# EAGLE library part TSC2007IPW (library TSC2007)
1.2V to 3.6V, 12-Bit, Nanopower, 4-Wire Micro TOUCH SCREEN CONTROLLER with I2C Interface
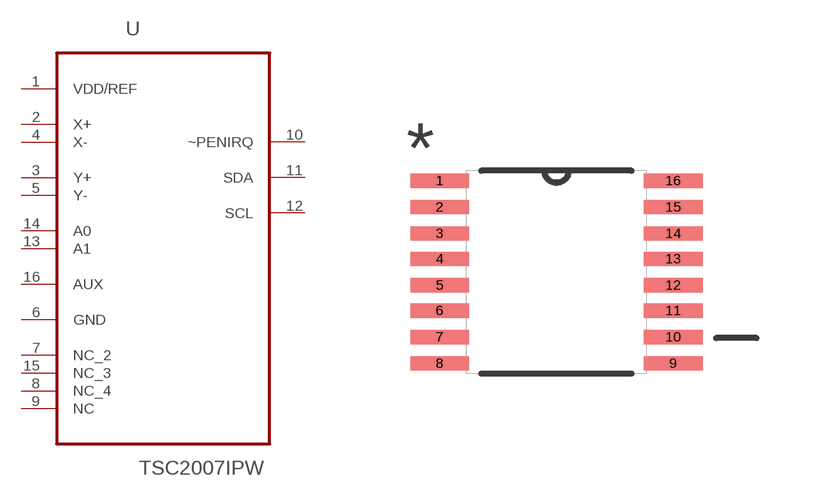
[diagram p0: symbol with the pads of SOP65P640X120-16N; footprint SOP65P640X120-16N]

Designator prefix U

## TSC2007IPW (MPN: TSC2007IPW; OC_FARNELL: 1703440; OC_NEWARK: 37M0087; PACKAGE: TSSOP-16; SUPPLIER: Texas Instruments)  [SOP65P640X120-16N]
1  VDD/REF  pwr
2  X+  in
3  Y+  in
4  X-  in
5  Y-  in
6  GND  pas
7  NC_2  nc
8  NC_4  nc
9  NC  nc
10  ~PENIRQ  out
11  SDA
12  SCL
13  A1  in
14  A0  in
15  NC_3  nc
16  AUX  in

## Footprint SOP65P640X120-16N (pad centres in mm)
smd 1.473 x 0.356: 1 -2.921,2.286; 2 -2.921,1.626; 3 -2.921,0.965; 4 -2.921,0.33; 5 -2.921,-0.33; 6 -2.921,-0.965; 7 -2.921,-1.626; 8 -2.921,-2.286; 9 2.921,-2.286; 10 2.921,-1.626; 11 2.921,-0.965; 12 2.921,-0.33; 13 2.921,0.33; 14 2.921,0.965; 15 2.921,1.626; 16 2.921,2.286